# EAGLE library part DEBUG_BREAKOUT (library learning_particle)
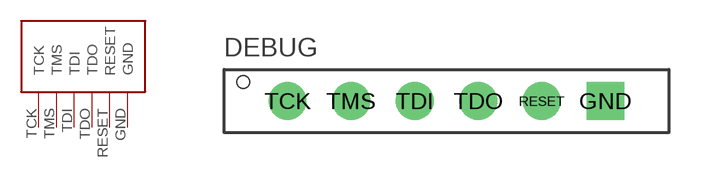
[diagram p1: symbol with the pads of DEBUG_BREAKOUT; footprint DEBUG_BREAKOUT]

Designator prefix -

## DEBUG_BREAKOUT  [DEBUG_BREAKOUT]
GND  GND
RESET  RESET
TCK  TCK
TDI  TDI
TDO  TDO
TMS  TMS

## Footprint DEBUG_BREAKOUT (pad centres in mm)
drill 1 square: GND 12.7,0
drill 1: RESET 10.16,0; TCK 0,0; TDI 5.08,0; TDO 7.62,0; TMS 2.54,0